# EAGLE library part LM74700-Q1MKX-1_NOPB (library BLDCBOMv4)
LM74700-Q1 Low IQ Reverse Battery Protection Ideal Diode Controller Source: Datasheet <http://www.ti.com/lit/ds/symlink/lm74700-q1.pdf>
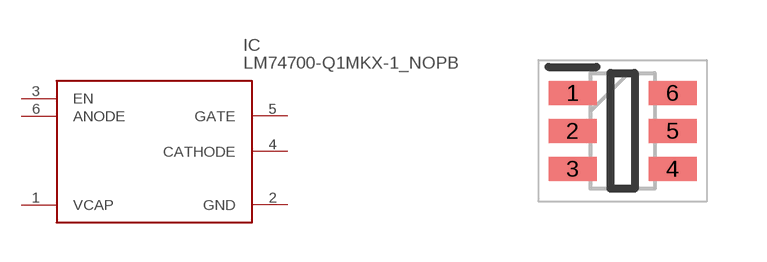
[diagram p2: symbol with the pads of SOT95P280X145-6N; footprint SOT95P280X145-6N]

Designator prefix IC

## LM74700-Q1MKX-1_NOPB (DESCRIPTION: LM74700-Q1 Low IQ Reverse Battery Protection Ideal Diode Controller; HEIGHT: 1.45mm; MANUFACTURER_NAME: Texas Instruments; MANUFACTURER_PART_NUMBER: LM74700-Q1MKX-1/NOPB)  [SOT95P280X145-6N]
1  VCAP
2  GND
3  EN
4  CATHODE
5  GATE
6  ANODE

## Footprint SOT95P280X145-6N (pad centres in mm)
DBV (R-PDSO-G6)
smd 1.2 x 0.6: 1 -1.25,0.95; 2 -1.25,0; 3 -1.25,-0.95; 4 1.25,-0.95; 5 1.25,0; 6 1.25,0.95